# EAGLE library part DT15-12PB (library RescueRunner)
DEUTSCH Automotive; DT RECP ASM
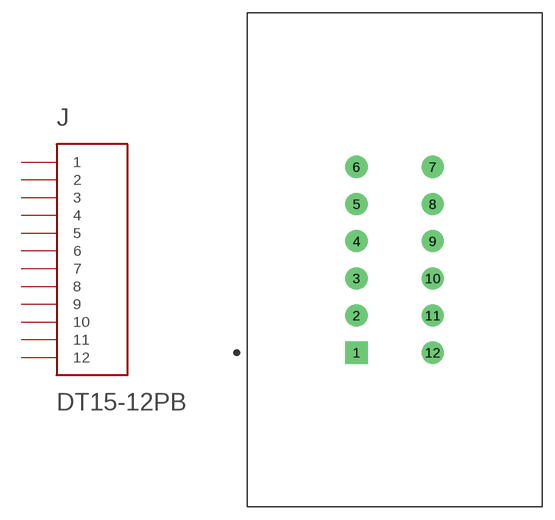
[diagram p6: symbol with the pads of TE_DT15-12PB; footprint TE_DT15-12PB]

Designator prefix J

## DT15-12PB (AVAILABILITY: Not in stock; DESCRIPTION: DEUTSCH Automotive; DT RECP ASM; MF: TE Connectivity; MPN: DT15-12PB; PARTREV: C3; STANDARD: Manufacturer recommendation)  [TE_DT15-12PB]
1  1  pas
2  2  pas
3  3  pas
4  4  pas
5  5  pas
6  6  pas
7  7  pas
8  8  pas
9  9  pas
10  10  pas
11  11  pas
12  12  pas

## Footprint TE_DT15-12PB (pad centres in mm)
drill 1.77 square: 1 -4.56,-11.115
drill 1.77: 2 -4.56,-6.67; 3 -4.56,-2.225; 4 -4.56,2.225; 5 -4.56,6.67; 6 -4.56,11.115; 7 4.56,11.115; 8 4.56,6.67; 9 4.56,2.225; 10 4.56,-2.225; 11 4.56,-6.67; 12 4.56,-11.115